# EAGLE library part 1X08 (library magzor-connectors)
-RJ45-SE: Molex 43249-8104 side entry RJ45 jack
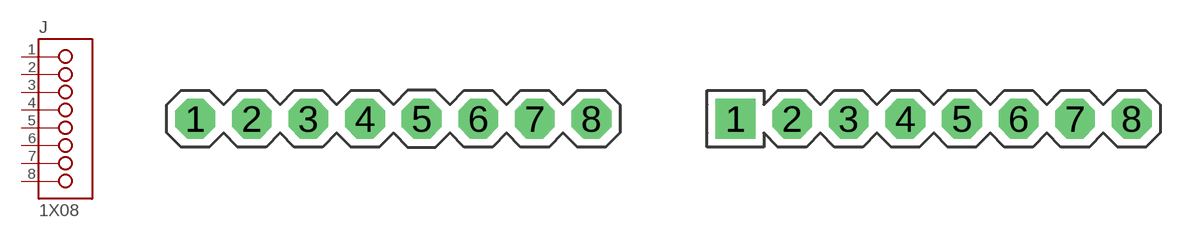
[diagram p1: symbol with the pads of P0.1IN-1X08; footprints P0.1IN-1X08, P0.1IN-1X08-1SQ]

Designator prefix J

## 1X08-0.1IN  [P0.1IN-1X08]
1  1
2  2
3  3
4  4
5  5
6  6
7  7
8  8

## 1X08-0.1IN-1SQ  [P0.1IN-1X08-1SQ]
Pads as for P0.1IN-1X08

## 1X08-RJ45-SE  [RJ45-SE]
Pads as for P0.1IN-1X08

## 1X08-RJ45-TE  [RJ45-TE]
Pads as for P0.1IN-1X08

## Footprint P0.1IN-1X08 (pad centres in mm)
drill 0.965 pad 1.778 octagon: 1 -8.89,0; 2 -6.35,0; 3 -3.81,0; 4 -1.27,0; 5 1.27,0; 6 3.81,0; 7 6.35,0; 8 8.89,0

## Footprint P0.1IN-1X08-1SQ (pad centres in mm)
drill 0.965 pad 1.778 square: 1 -8.89,0
drill 0.965 pad 1.778 octagon: 2 -6.35,0; 3 -3.81,0; 4 -1.27,0; 5 1.27,0; 6 3.81,0; 7 6.35,0; 8 8.89,0

## Footprint RJ45-SE (pad centres in mm)
Molex 43249-8104 side entry RJ45 jack (these are nice and clicky)
drill 0.9 square: 1 -4.445,6.604
drill 0.9 octagon: 2 -3.175,9.144; 3 -1.905,6.604; 4 -0.635,9.144; 5 0.635,6.604; 6 1.905,9.144; 7 3.175,6.604; 8 4.445,9.144
drill 0.9: NC1 -5.715,9.144; NC2 5.715,6.604
hole 3.251 at 5.715,0.254
hole 3.251 at -5.715,0.254

## Footprint RJ45-TE (pad centres in mm)
Molex 42878-1001 top entry RJ45 connector
drill 0.914 square: 1 -4.445,6.35
drill 0.914 octagon: 2 -3.175,8.89; 3 -1.905,6.35; 4 -0.635,8.89; 5 0.635,6.35; 6 1.905,8.89; 7 3.175,6.35; 8 4.445,8.89
drill 0.914: NC1 -5.715,8.89; NC2 5.715,6.35
hole 3.251 at 5.715,0
hole 3.251 at -5.715,0